# EAGLE library part FAN8623 (library joule_shield)
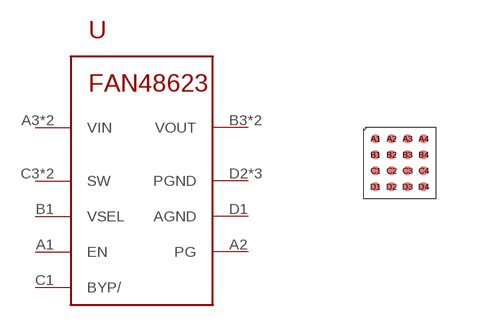
[diagram p10: symbol with the pads of WLCSP16; footprint WLCSP16]

Designator prefix -

## FAN8623WLCSP16  [WLCSP16]
A1  EN
A2  PG
A3  VIN
A4  VIN
B1  VSEL
B3  VOUT
B4  VOUT
C1  BYP/
C3  SW
C4  SW
D1  AGND
D2  PGND
D3  PGND
D4  PGND

## Footprint WLCSP16 (pad centres in mm)
smd 0.215 x 0.215: A1 -0.6,0.6; A2 -0.2,0.6; A3 0.2,0.6; A4 0.6,0.6; B1 -0.6,0.2; B2 -0.2,0.2; B3 0.2,0.2; B4 0.6,0.2; C1 -0.6,-0.2; C2 -0.2,-0.2; C3 0.2,-0.2; C4 0.6,-0.2; D1 -0.6,-0.6; D2 -0.2,-0.6; D3 0.2,-0.6; D4 0.6,-0.6